# Altium schematic symbol library Chip Ferrites.SchLib: 2 symbols
Pins are listed as number, name and electrical type; pins without a type are passive.

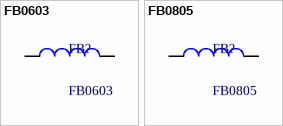
[diagram p0: symbols FB0603 to FB0805]

## FB0603
designator FB?
0603 Multilayer Ferrite Power Bead; Manufacturer: KOA Speer; Manufacturer P/N: CZP1JFTTD121P; Vendor: Mouser; Vendor P/N: 660-CZP1JFTTD121P; Resistance @ 100MHz: 120; Price: 0.15; ComponentLink1URL: *
footprint 0603CAP (Chip Capacitor; Body 1.6 x 0.8 mm (LxW typ))
pins: 1, 2

## FB0805
designator FB?
0805 Multilayer Ferrite Power Bead; Manufacturer: KOA Speer; Manufacturer P/N: CAP2AFTTD221P; Vendor: Mouser; Vendor P/N: 660-CZP2AFTTD221P; Resistance @ 100MHz: 220; Price: 0.15
footprint 0805CAP (Chip Capacitor; Body 2.0 x 1.2 mm (LxW typ))
pins: 1, 2